# EAGLE library part ATMEGA2560-16AU (library Microcontroller)
IC MCU 8BIT 256KB FLASH 100TQFP Manufacturer's datasheet <http://ww1.microchip.com/downloads/en/DeviceDoc/Atmel-2549-8-bit-AVR-Microcontroller-ATmega640-1280-1281-2560-2561_Summary.pdf>
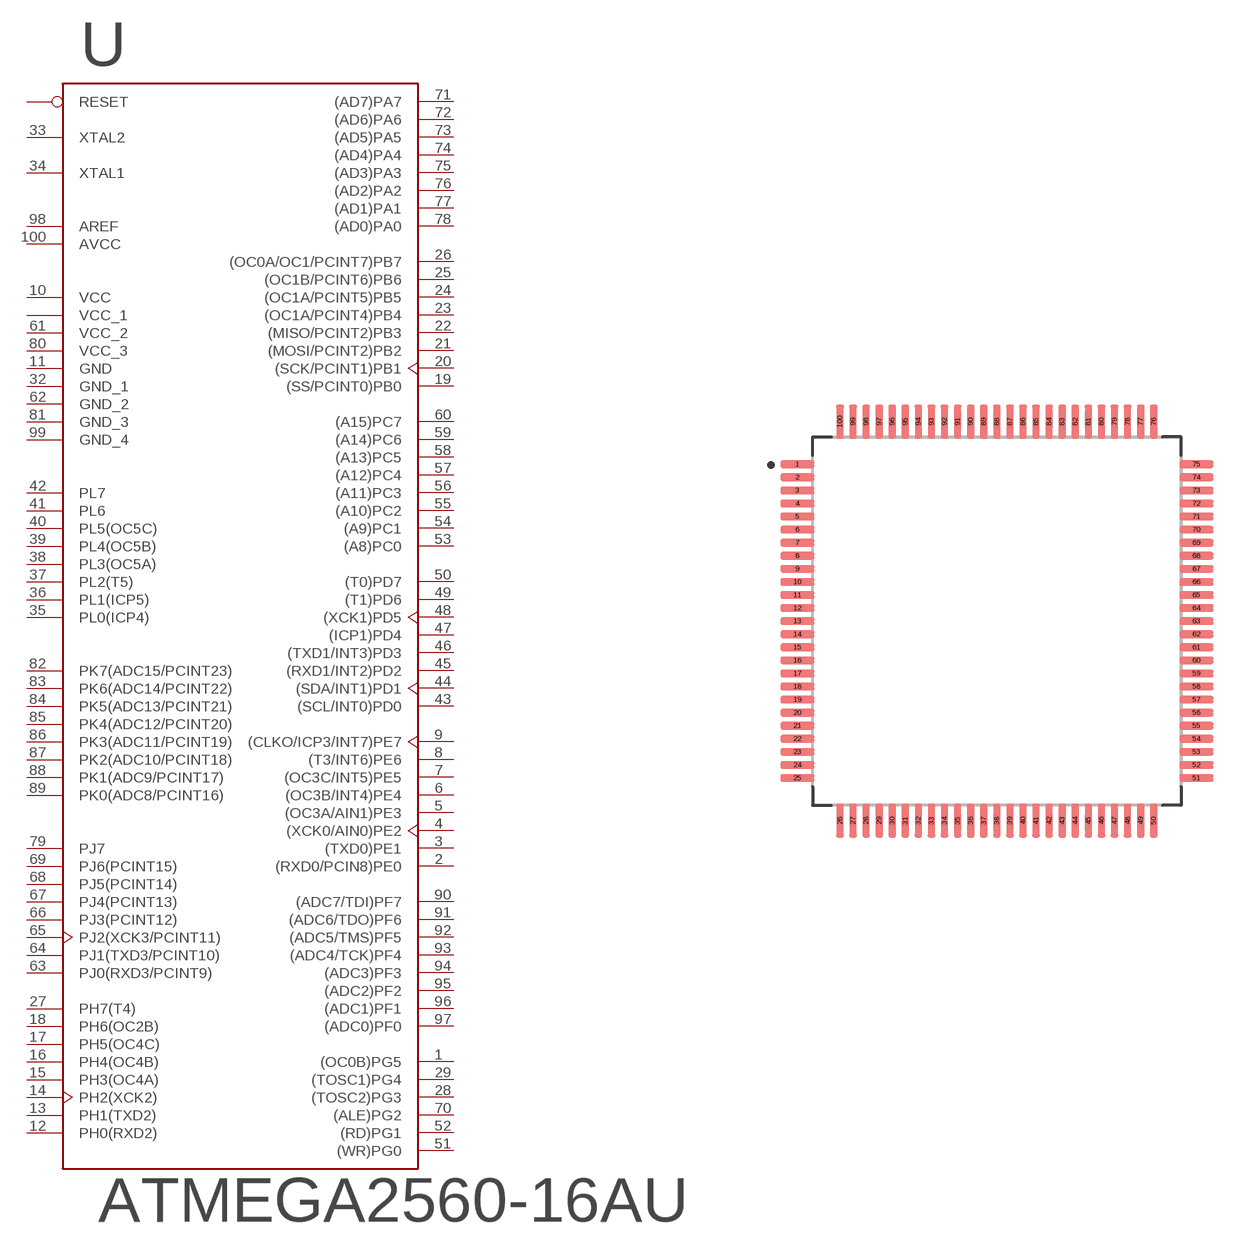
[diagram p11: symbol with the pads of TQFP-100; footprint TQFP-100]

Designator prefix U

## ATMEGA2560-16AU (CREATED_BY: PCBLayout.com; DIGIKEY_PART_NUMBER: ATMEGA2560-16AU-ND; MANUFACTURER: Microchip Technology; MPN: ATMEGA2560-16AU; PACKAGE: TQFP-100)  [TQFP-100]
1  (OC0B)PG5
2  (RXD0/PCIN8)PE0
3  (TXD0)PE1
4  (XCK0/AIN0)PE2
5  (OC3A/AIN1)PE3
6  (OC3B/INT4)PE4
7  (OC3C/INT5)PE5
8  (T3/INT6)PE6
9  (CLKO/ICP3/INT7)PE7
10  VCC  pwr
11  GND  pwr
12  PH0(RXD2)
13  PH1(TXD2)
14  PH2(XCK2)
15  PH3(OC4A)
16  PH4(OC4B)
17  PH5(OC4C)
18  PH6(OC2B)
19  (SS/PCINT0)PB0
20  (SCK/PCINT1)PB1
21  (MOSI/PCINT2)PB2
22  (MISO/PCINT2)PB3
23  (OC1A/PCINT4)PB4
24  (OC1A/PCINT5)PB5
25  (OC1B/PCINT6)PB6
26  (OC0A/OC1/PCINT7)PB7
27  PH7(T4)
28  (TOSC2)PG3
29  (TOSC1)PG4
30  RESET  pwr
31  VCC_1  pwr
32  GND_1  pwr
33  XTAL2  pas
34  XTAL1  pas
35  PL0(ICP4)
36  PL1(ICP5)
37  PL2(T5)
38  PL3(OC5A)
39  PL4(OC5B)
40  PL5(OC5C)
41  PL6
42  PL7
43  (SCL/INT0)PD0
44  (SDA/INT1)PD1
45  (RXD1/INT2)PD2
46  (TXD1/INT3)PD3
47  (ICP1)PD4
48  (XCK1)PD5
49  (T1)PD6
50  (T0)PD7
51  (WR)PG0
52  (RD)PG1
53  (A8)PC0
54  (A9)PC1
55  (A10)PC2
56  (A11)PC3
57  (A12)PC4
58  (A13)PC5
59  (A14)PC6
60  (A15)PC7
61  VCC_2  pwr
62  GND_2  pwr
63  PJ0(RXD3/PCINT9)
64  PJ1(TXD3/PCINT10)
65  PJ2(XCK3/PCINT11)
66  PJ3(PCINT12)
67  PJ4(PCINT13)
68  PJ5(PCINT14)
69  PJ6(PCINT15)
70  (ALE)PG2
71  (AD7)PA7
72  (AD6)PA6
73  (AD5)PA5
74  (AD4)PA4
75  (AD3)PA3
76  (AD2)PA2
77  (AD1)PA1
78  (AD0)PA0
79  PJ7
80  VCC_3  pwr
81  GND_3  pwr
82  PK7(ADC15/PCINT23)
83  PK6(ADC14/PCINT22)
84  PK5(ADC13/PCINT21)
85  PK4(ADC12/PCINT20)
86  PK3(ADC11/PCINT19)
87  PK2(ADC10/PCINT18)
88  PK1(ADC9/PCINT17)
89  PK0(ADC8/PCINT16)
90  (ADC7/TDI)PF7
91  (ADC6/TDO)PF6
92  (ADC5/TMS)PF5
93  (ADC4/TCK)PF4
94  (ADC3)PF3
95  (ADC2)PF2
96  (ADC1)PF1
97  (ADC0)PF0
98  AREF  pwr
99  GND_4  pwr
100  AVCC  pwr

## Footprint TQFP-100 (pad centres in mm)
smd 1.3 x 0.3: 1 -7.63,6; 2 -7.63,5.5; 3 -7.63,5; 4 -7.63,4.5; 5 -7.63,4; 6 -7.63,3.5; 7 -7.63,3; 8 -7.63,2.5; 9 -7.63,2; 10 -7.63,1.5; 11 -7.63,1; 12 -7.63,0.5; 13 -7.63,0; 14 -7.63,-0.5; 15 -7.63,-1; 16 -7.63,-1.5; 17 -7.63,-2; 18 -7.63,-2.5; 19 -7.63,-3; 20 -7.63,-3.5; 21 -7.63,-4; 22 -7.63,-4.5; 23 -7.63,-5; 24 -7.63,-5.5; 25 -7.63,-6; 51 7.63,-6; 52 7.63,-5.5; 53 7.63,-5; 54 7.63,-4.5; 55 7.63,-4; 56 7.63,-3.5; 57 7.63,-3; 58 7.63,-2.5; 59 7.63,-2; 60 7.63,-1.5; 61 7.63,-1; 62 7.63,-0.5; 63 7.63,0; 64 7.63,0.5; 65 7.63,1; 66 7.63,1.5; 67 7.63,2; 68 7.63,2.5; 69 7.63,3; 70 7.63,3.5; 71 7.63,4; 72 7.63,4.5; 73 7.63,5; 74 7.63,5.5; 75 7.63,6
smd 0.3 x 1.3: 26 -6,-7.63; 27 -5.5,-7.63; 28 -5,-7.63; 29 -4.5,-7.63; 30 -4,-7.63; 31 -3.5,-7.63; 32 -3,-7.63; 33 -2.5,-7.63; 34 -2,-7.63; 35 -1.5,-7.63; 36 -1,-7.63; 37 -0.5,-7.63; 38 0,-7.63; 39 0.5,-7.63; 40 1,-7.63; 41 1.5,-7.63; 42 2,-7.63; 43 2.5,-7.63; 44 3,-7.63; 45 3.5,-7.63; 46 4,-7.63; 47 4.5,-7.63; 48 5,-7.63; 49 5.5,-7.63; 50 6,-7.63; 76 6,7.63; 77 5.5,7.63; 78 5,7.63; 79 4.5,7.63; 80 4,7.63; 81 3.5,7.63; 82 3,7.63; 83 2.5,7.63; 84 2,7.63; 85 1.5,7.63; 86 1,7.63; 87 0.5,7.63; 88 0,7.63; 89 -0.5,7.63; 90 -1,7.63; 91 -1.5,7.63; 92 -2,7.63; 93 -2.5,7.63; 94 -3,7.63; 95 -3.5,7.63; 96 -4,7.63; 97 -4.5,7.63; 98 -5,7.63; 99 -5.5,7.63; 100 -6,7.63